# EAGLE library part SI8261 (library gate-drivers)
Si8261 - 5kV LED Emulator Input, 4.0 Isolated Gate Drivers Description: The Si826x isolators are pin-compatible, drop-in upgrades for popular opto-coupled gate drivers, such as 0.6A ACPL-0302/3020, 2.5 A HCPL-3120/ACPL-3130,HCNW3120/3130, and similar opto-drivers. Recommended Operating Conditions: Vdd: 5 to 30V If(on): 6 to 30mA Ta: -40 to 125℃ soure : Datasheet <http://jp.rs-online.com/webdocs/1299/0900766b81299254.pdf>
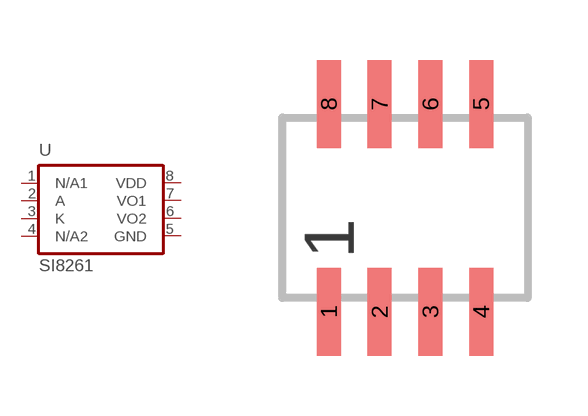
[diagram p0: symbol with the pads of SOP08; footprint SOP08]

Designator prefix -

## SI8261 (MF: Silicon Laboratories; MPN: Si8261ACA-C-IS; RS-NUMBER: 795-1453)  [SOP08]
1  N/A1  nc
2  A  in
3  K  in
4  N/A2  nc
5  GND  pwr
6  VO2  out
7  VO1  out
8  VDD  pwr

## Footprint SOP08 (pad centres in mm)
SMALL OUTLINE PACKAGE
smd 0.6 x 2.2: 1 -1.905,-2.6; 2 -0.635,-2.6; 3 0.635,-2.6; 4 1.905,-2.6; 5 1.905,2.6; 6 0.635,2.6; 7 -0.635,2.6; 8 -1.905,2.6